# EAGLE library part BCD_SCHEDULER (library C-SCHEDULER)
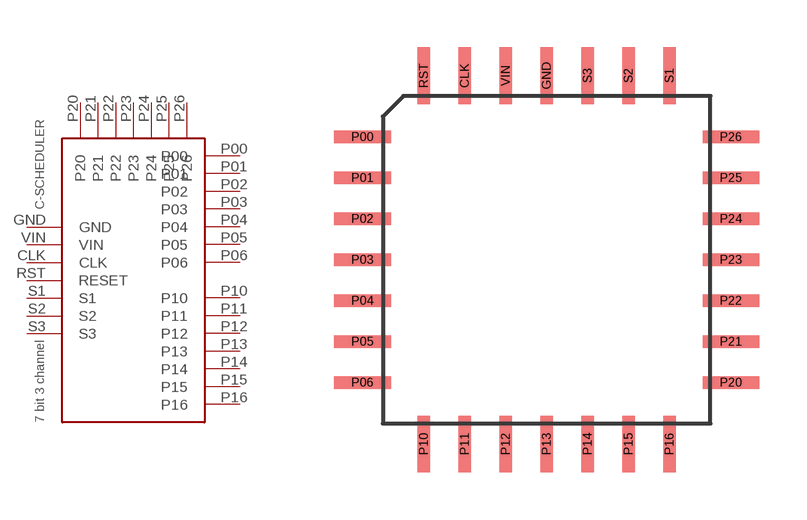
[diagram p0: symbol with the pads of BCD_SCHEDULER; footprint BCD_SCHEDULER]

Designator prefix -

## BCD_SCHEDULER  [BCD_SCHEDULER]
CLK  CLK
GND  GND
P00  P00
P01  P01
P02  P02
P03  P03
P04  P04
P05  P05
P06  P06
P10  P10
P11  P11
P12  P12
P13  P13
P14  P14
P15  P15
P16  P16
P20  P20
P21  P21
P22  P22
P23  P23
P24  P24
P25  P25
P26  P26
RST  RESET
S1  S1
S2  S2
S3  S3
VIN  VIN

## Footprint BCD_SCHEDULER (pad centres in mm)
smd 0.4 x 1.8: CLK 3.25,1.3; GND 5.85,1.3; P10 1.95,-10.4; P11 3.25,-10.4; P12 4.55,-10.4; P13 5.85,-10.4; P14 7.15,-10.4; P15 8.45,-10.4; P16 9.75,-10.4; RST 1.95,1.3; S1 9.75,1.3; S2 8.45,1.3; S3 7.15,1.3; VIN 4.55,1.3
smd 1.8 x 0.4: P00 0,-0.65; P01 0,-1.95; P02 0,-3.25; P03 0,-4.55; P04 0,-5.85; P05 0,-7.15; P06 0,-8.45; P20 11.7,-8.45; P21 11.7,-7.15; P22 11.7,-5.85; P23 11.7,-4.55; P24 11.7,-3.25; P25 11.7,-1.95; P26 11.7,-0.65